# Altium footprint library TMC2160.PcbLib: 3 footprints
Each footprint in its own frame and in the unit in brackets; x right, y up, seen from the top. Pads: shape width x height; smd on the part's side, far side on the other; paste and mask are expansions set on the pad; w line width, h text height; cw(c..) or ccw(c..) is an arc to the next point about the centre after c.
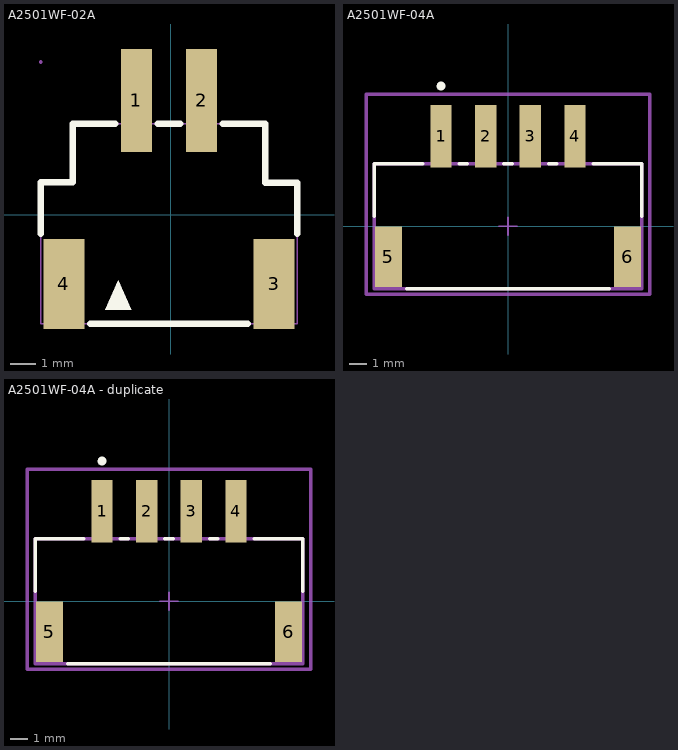
[diagram p0: the footprints below, top view; thin cyan lines are the x and y axes]

## A2501WF-02A [mm]
pads (4):
  rect 1.2x4 smd: 1(-1.334,4.462) 2(1.206,4.462)
  rect 1.6x3.5 smd: 3(4.036,-2.692) 4(-4.164,-2.692)
Top Overlay:
  region: -2.554,-3.692 -1.665,-3.692 -1.538,-3.692 -2.046,-2.549
  lines w0.254: -5.065,-0.734 -5.065,1.268 -3.813,1.268 -3.813,3.559 -2.164,3.559 ; -3.133,-4.242 3.005,-4.242 ; -0.503,3.558 0.375,3.558 ; 2.037,3.558 3.686,3.558 3.686,1.258 4.936,1.258 4.936,-0.734
Mechanical 6:
  circle w0.4: c-1.384,5.448 r0.2
Mechanical 15:
  region: -4.364,-1.838 -3.964,-1.838 -3.964,-4.238 -4.364,-4.238
  region: 3.836,-1.838 4.236,-1.838 4.236,-4.238 3.836,-4.238
  region: -1.654,5.962 -1.014,5.962 -1.014,2.533 -1.654,2.533
  region: 0.886,5.962 1.526,5.962 1.526,2.533 0.886,2.533
  region: -5.004,5.962 -5.004,5.937 -5.039,5.902 -5.089,5.902 -5.124,5.937 -5.124,5.962 -5.124,5.987 -5.089,6.022 -5.039,6.022 -5.004,5.987
  lines w0.051: -5.064,-4.238 4.936,-4.238 4.936,1.262 3.686,1.262 3.686,3.562 -3.814,3.562 -3.814,1.262 -5.064,1.262 -5.064,-4.238
3D body "2.54-2P WT.STEP": height 6.1, standoff 0, extent -5.056,-4.556 4.944,5.744

## A2501WF-04A [mm]
pads (6):
  rect 1.2x3.5 smd paste+0 mask+0: 1(-3.75,5.05) 2(-1.25,5.05) 3(1.25,5.05) 4(3.75,5.05)
  rect 1.5x3.4 smd paste+0 mask+0: 5(-6.7,-1.7) 6(6.7,-1.7)
Top Overlay:
  circle w0.25: c-3.75,7.85 r0.125
  lines w0.2: -7.5,0.575 -7.5,3.5 -4.775,3.5 ; -5.675,-3.5 5.675,-3.5 ; -2.725,3.5 -2.275,3.5 ; -0.225,3.5 0.225,3.5 ; 2.275,3.5 2.725,3.5 ; 4.775,3.5 7.5,3.5 7.5,0.575
Top 3D Body:
  lines w0.2: -7.5,-3.5 7.5,-3.5 7.5,3.5 -7.5,3.5 -7.5,-3.5
Top Courtyard:
  lines w0.2: -7.95,-3.8 7.95,-3.8 7.95,7.4 -7.95,7.4 -7.95,-3.8
Top Assembly:
  lines w0.2: -7.95,-3.8 7.95,-3.8 7.95,7.4 -7.95,7.4 -7.95,-3.8
Top Component Center:
  lines w0.1: -0.5,0 0.5,0 ; 0,-0.5 0,0.5
3D body "Conn_JST_S4B-XH-SM4-TB_LF_SN_eec.STEP": height 0.25, standoff 0, extent -7.95,-3.8 7.95,7.4

## A2501WF-04A - duplicate [mm]
pads (6):
  rect 1.2x3.5 smd paste+0 mask+0: 1(-3.75,5.05) 2(-1.25,5.05) 3(1.25,5.05) 4(3.75,5.05)
  rect 1.5x3.4 smd paste+0 mask+0: 5(-6.7,-1.7) 6(6.7,-1.7)
Top Overlay:
  circle w0.25: c-3.75,7.85 r0.125
  lines w0.2: -7.5,0.575 -7.5,3.5 -4.775,3.5 ; -5.675,-3.5 5.675,-3.5 ; -2.725,3.5 -2.275,3.5 ; -0.225,3.5 0.225,3.5 ; 2.275,3.5 2.725,3.5 ; 4.775,3.5 7.5,3.5 7.5,0.575
Top 3D Body:
  lines w0.2: -7.5,-3.5 -7.5,3.5 7.5,3.5 7.5,-3.5 -7.5,-3.5
Top Courtyard:
  lines w0.2: -7.95,-3.8 -7.95,7.4 7.95,7.4 7.95,-3.8 -7.95,-3.8
Top Assembly:
  lines w0.2: -7.95,-3.8 -7.95,7.4 7.95,7.4 7.95,-3.8 -7.95,-3.8
Top Component Center:
  lines w0.1: -0.5,0 0.5,0 ; 0,-0.5 0,0.5
3D body "Conn_JST_S4B-XH-SM4-TB_LF_SN_eec.STEP": height 0.25, standoff 0, extent -7.95,-3.8 7.95,7.4